# EAGLE library part FIN1028MX (library Driver_Transceiver ICs)
IC RECEIVER 0/2 8SOIC Manufacturer's datasheet <https://www.onsemi.com/pub/Collateral/FIN1028-D.PDF>
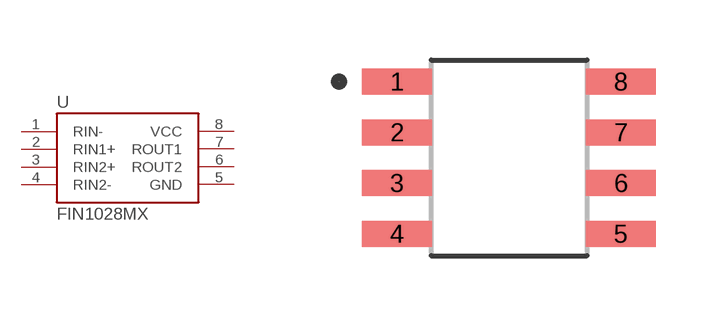
[diagram p9: symbol with the pads of SOIC-8; footprint SOIC-8]

Designator prefix U

## FIN1028MX (CREATED_BY: PCBLayout.com; DIGIKEY_PN: FIN1028MXCT-ND; MANUFACTURER: ON Semiconductor; MPN: FIN1028MX; PACKAGE: SOIC-8)  [SOIC-8]
1  RIN-  in
2  RIN1+  in
3  RIN2+  in
4  RIN2-  in
5  GND  pwr
6  ROUT2  out
7  ROUT1  out
8  VCC  pwr

## Footprint SOIC-8 (pad centres in mm)
smd 1.75 x 0.65: 1 -2.8,1.905; 2 -2.8,0.635; 3 -2.8,-0.635; 4 -2.8,-1.905; 5 2.8,-1.905; 6 2.8,-0.635; 7 2.8,0.635; 8 2.8,1.905